# Altium footprint library sk33.PCBLIB: 1 footprints
Each footprint in its own frame and in the unit in brackets; x right, y up, seen from the top. Pads: shape width x height; smd on the part's side, far side on the other; paste and mask are expansions set on the pad; w line width, h text height; cw(c..) or ccw(c..) is an arc to the next point about the centre after c.
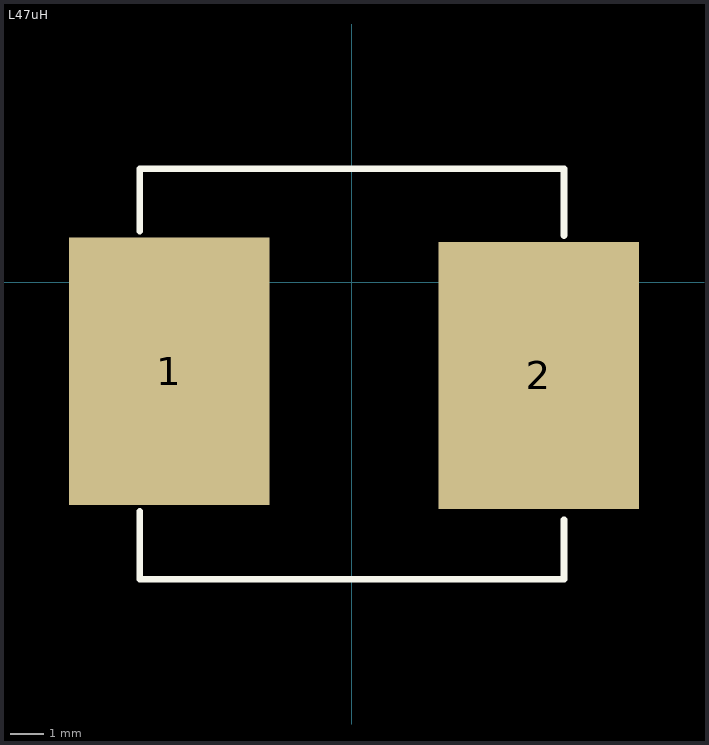
[diagram p0: the footprint, top view; thin cyan lines are the x and y axes]

## L47uH [mm]
pads (2):
  rect 6x8 smd: 1(-5.461,-2.667) 2(5.588,-2.794)
Top Overlay:
  lines w0.2: -6.35,-6.858 -6.35,-8.89 6.35,-8.89 6.35,-7.112 ; -6.35,1.524 -6.349,3.389 6.349,3.389 6.35,1.397